# Altium schematic symbol library sil1364.SchLib: 1 symbol
Pins are listed as number, name and electrical type; pins without a type are passive.

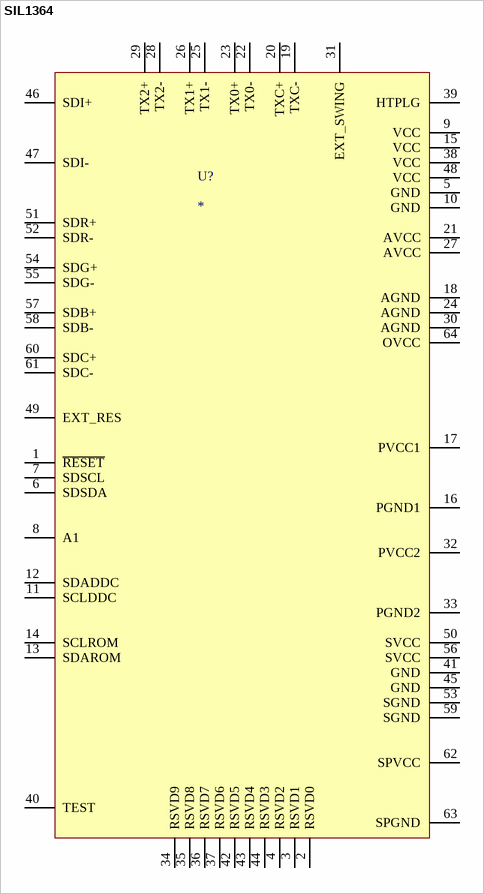
[diagram p0: symbol SIL1364]

## SIL1364
designator U?
Part No.: SIL1364; Manufacturer: Silicon Image; Vendor: SemiconductorStore; Price Est.: $2.31
pins: 1 ~{RESET}, 2 RSVD0, 3 RSVD1, 4 RSVD2, 5 GND, 6 SDSDA, 7 SDSCL, 8 A1, 9 VCC, 10 GND, 11 SCLDDC, 12 SDADDC, 13 SDAROM, 14 SCLROM, 15 VCC, 16 PGND1, 17 PVCC1, 18 AGND, 19 TXC-, 20 TXC+, 21 AVCC, 22 TX0-, 23 TX0+, 24 AGND, 25 TX1-, 26 TX1+, 27 AVCC, 28 TX2-, 29 TX2+, 30 AGND, 31 EXT_SWING, 32 PVCC2, 33 PGND2, 34 RSVD9, 35 RSVD8, 36 RSVD7, 37 RSVD6, 38 VCC, 39 HTPLG, 40 TEST, 41 GND, 42 RSVD5, 43 RSVD4, 44 RSVD3, 45 GND, 46 SDI+, 47 SDI-, 48 VCC, 49 EXT_RES, 50 SVCC, 51 SDR+, 52 SDR-, 53 SGND, 54 SDG+, 55 SDG-, 56 SVCC, 57 SDB+, 58 SDB-, 59 SGND, 60 SDC+, 61 SDC-, 62 SPVCC, 63 SPGND, 64 OVCC